# Altium footprint library CONN-TH_L6.3-W0.8-EST026.PcbLib: 1 footprints
Each footprint in its own frame and in the unit in brackets; x right, y up, seen from the top. Pads: shape width x height; smd on the part's side, far side on the other; paste and mask are expansions set on the pad; w line width, h text height; cw(c..) or ccw(c..) is an arc to the next point about the centre after c.
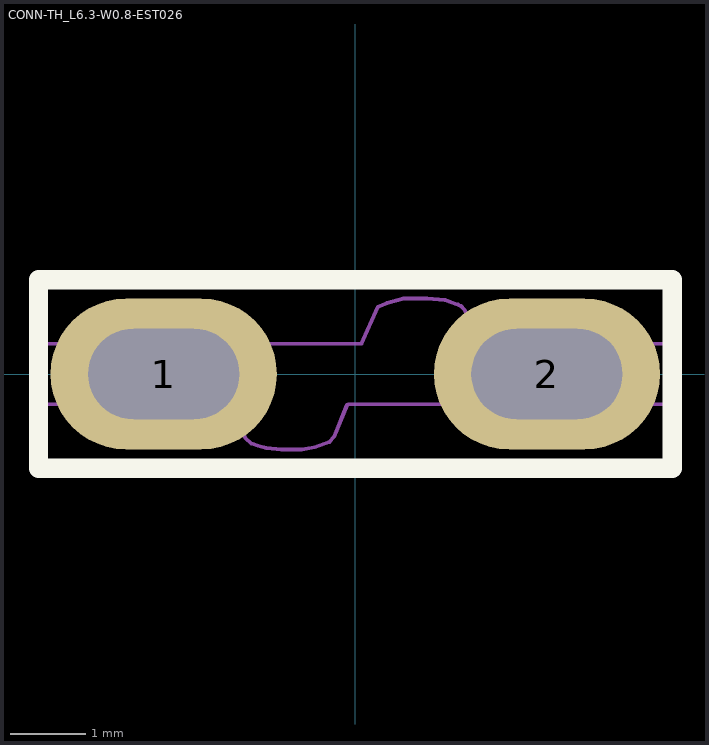
[diagram p0: the footprint, top view; thin cyan lines are the x and y axes]

## CONN-TH_L6.3-W0.8-EST026 [mm]
pads (2):
  oval 3x2 hole 1.2 slot 2 at 0 deg: 1(-2.54,0) 2(2.54,0)
Top Overlay:
  lines w0.254: -4.2,-1.25 4.2,-1.25 4.2,1.25 -4.2,1.25 -4.2,-1.25
Mechanical 15:
  region: -3.14,-0.4 -3.14,0.4 -1.94,0.4 -1.94,-0.4
  region: 1.94,-0.4 1.94,0.4 3.14,0.4 3.14,-0.4
  region: -4.115,-1 -4.115,-1.025 -4.15,-1.06 -4.2,-1.06 -4.235,-1.025 -4.235,-1 -4.235,-0.975 -4.2,-0.94 -4.15,-0.94 -4.115,-0.975 -4.115,-1
  lines w0.051: -4.175,-0.4 -1.66,-0.4 -1.65,-0.41 -1.46,-0.85 -1.38,-0.92 -1.29,-0.95 -1.18,-0.98 -0.98,-1 -0.71,-1 -0.54,-0.97 -0.34,-0.9 -0.28,-0.83 -0.11,-0.41 -0.09,-0.4 4.175,-0.4 4.175,0.4 1.65,0.4 1.45,0.85 1.4,0.9 1.36,0.92 1.19,0.98 0.95,1 0.64,1 0.42,0.94 0.3,0.89 0.08,0.4 -4.175,0.4 -4.175,-0.4